# EAGLE library part 5103308-1 (library RoboJackets-Connectors)
Description: Connector Header Through Hole 10 position 0.100" (2.54mm) Link: Digi-Key <https://www.digikey.com/products/en?keywords=5103308-1>
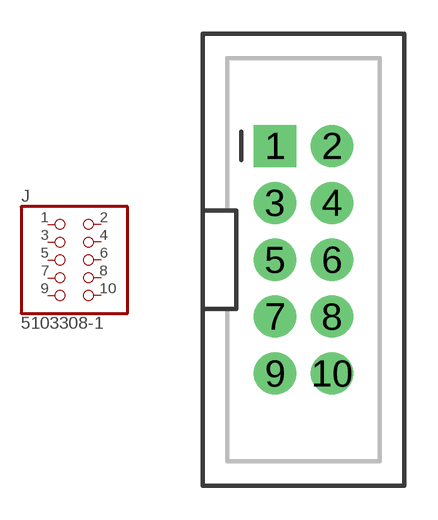
[diagram p7: symbol with the pads of 5103308-1; footprint 5103308-1]

Designator prefix J

## 5103308-1 (DKPN: A33159-ND)  [5103308-1]
1  1  pas
2  2  pas
3  3  pas
4  4  pas
5  5  pas
6  6  pas
7  7  pas
8  8  pas
9  9  pas
10  10  pas

## Footprint 5103308-1 (pad centres in mm)
drill 1.016 pad 1.88 square: 1 -1.27,5.08
drill 1.016 pad 1.88: 2 1.27,5.08; 3 -1.27,2.54; 4 1.27,2.54; 5 -1.27,0; 6 1.27,0; 7 -1.27,-2.54; 8 1.27,-2.54; 9 -1.27,-5.08; 10 1.27,-5.08